# EAGLE library part SST26VF064C (library memory-sst)
EEPROM Serial Quad I/O (SQI) Flash Memory
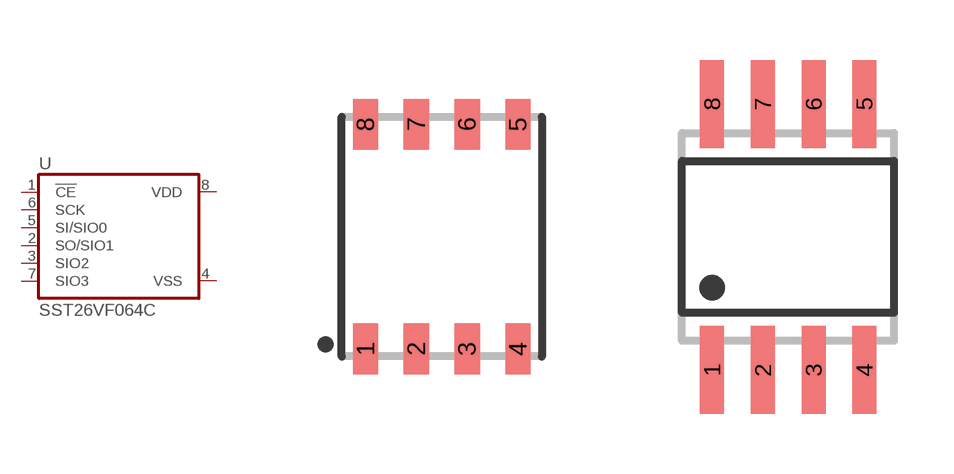
[diagram p2: symbol with the pads of WSON8; footprints WSON8, SO08-S2A]

Designator prefix U

## SST26VF064CQA  [WSON8]
1  !CE!  in
2  SO/SIO1
3  SIO2
4  VSS  pwr
5  SI/SIO0
6  SCK  in
7  SIO3
8  VDD  pwr

## SST26VF064CS2  [SO08-S2A]
Pads as for WSON8

## SST26VF064CS2/QA  [SO08W/WSON8]
Pads as for WSON8

## Footprint WSON8 (pad centres in mm)
8-WSON 8-Contact Very-very-thin Small Outline No-lead body 6.00 x 5.00 mm
smd 0.635 x 1.27: 1 -1.905,-2.81; 2 -0.635,-2.81; 3 0.635,-2.81; 4 1.905,-2.81; 5 1.905,2.81; 6 0.635,2.81; 7 -0.635,2.81; 8 -1.905,2.81

## Footprint SO08-S2A (pad centres in mm)
SMALL OUTLINE INTEGRATED CIRCUIT 200 MIL BODY WIDTH (5.2MM X 8MM)
smd 0.6 x 2.2: 1 -1.905,-3.33; 2 -0.635,-3.33; 3 0.635,-3.33; 4 1.905,-3.33; 5 1.905,3.33; 6 0.635,3.33; 7 -0.635,3.33; 8 -1.905,3.33

## Footprint SO08W/WSON8 (pad centres in mm)
SO-08 / WSON-08 - Dual Footprint WSON-08, body 8.00 x 6.00 mm SO-08, body 3.9 mm/JEDEC MS-012AA
smd 0.635 x 1.905: 1 -1.905,-3.255; 2 -0.635,-3.255; 3 0.635,-3.255; 4 1.905,-3.255; 5 1.905,3.255; 6 0.635,3.255; 7 -0.635,3.255; 8 -1.905,3.255